# Altium schematic symbol library Bourns Rotary Encoder PEC11R.SchLib: 1 symbol
Pins are listed as number, name and electrical type; pins without a type are passive.

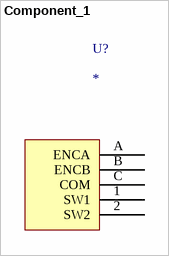
[diagram p0: symbol Component_1]

## Component_1
designator U?
PEC11R-4xxxF-Sxxxx
footprint PCBComponent_1
pins: 1 SW1, 2 SW2, A ENCA, B ENCB, C COM